# Altium integrated library TI Video Colour Decoder Circuit.IntLib: 24 symbols (part 3 of 3)
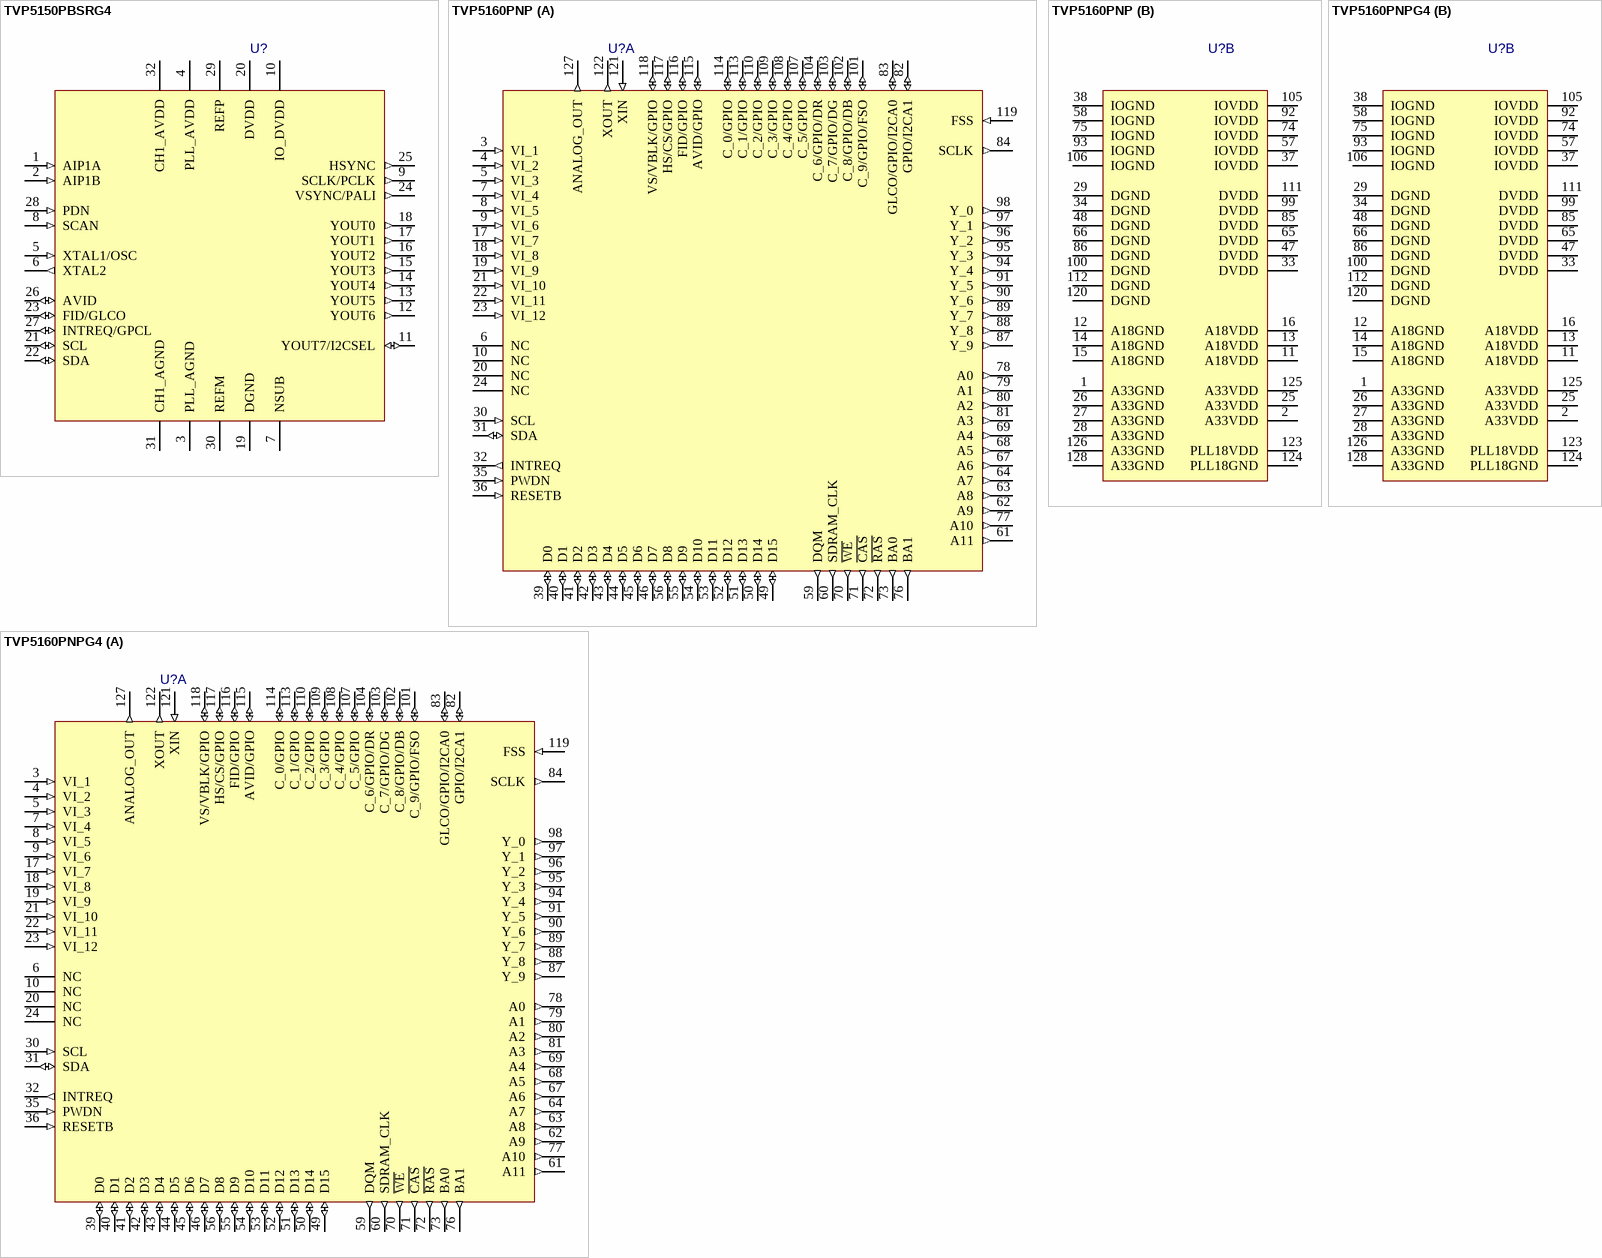
[diagram p5: symbols TVP5150PBSRG4 to TVP5160PNPG4]

## TVP5160PNPG4
designator U?
NTSC/PAL/SECAM/Component 2x10-Bit Digital Video Decoder with Macrovision Detection, 3D-YC/5-Line Com, 128-Pin HTQFP; Published: 6-Oct-2005; LatestRevisionDate: 13-Apr-2006; LatestRevisionNote: IPC-7351 Footprint Added.; DatasheetVersion: Feb-2005; PackageVersion: Sep-2004; PackageReference: PNP128; Publisher: Altium Limited; PackageDescription: 128-Pin Plastic Quad Flat Pack PowerPAD 0.4mm Pitch; ComponentLink1Description: Manufacturer Link; ComponentLink1URL: http://focus.ti.com/docs/prod/folders/print/tvp5160.html; ComponentLink2Description: Datasheet; ComponentLink2URL: http://focus.ti.com/lit/ds/symlink/tvp5160.pdf
footprint PNP128_N (Thin QFP, 128-Leads, Body 14x14mm, Pitch 0.4mm, IPC Medium Density)
footprint PNP128_L (Thin QFP, 128-Leads, Body 14x14mm, Pitch 0.4mm, IPC High Density)
footprint PNP128_M (Thin QFP, 128-Leads, Body 14x14mm, Pitch 0.4mm, IPC Low Density)
part A pins: 3 VI_1 (in) "Analog video input", 4 VI_2 (in) "Analog video input", 5 VI_3 (in) "Analog video input", 6 NC "No internal connection.", 7 VI_4 (in) "Analog video input", 8 VI_5 (in) "Analog video input", 9 VI_6 (in) "Analog video input", 10 NC "No internal connection.", 17 VI_7 (in) "Analog video input", 18 VI_8 (in) "Analog video input", 19 VI_9 (in) "Analog video input", 20 NC "No internal connection.", 21 VI_10 (in) "Analog video input", 22 VI_11 (in) "Analog video input", 23 VI_12 (in) "Analog video input", 24 NC "No internal connection.", 30 SCL (in) "I2C clock input", 31 SDA (io) "I2C data bus", 32 INTREQ (out) "Interrupt request output", 35 PWDN (in) "Power down input.", 36 RESETB (in) "Reset input, active low.", 39 D0 (io) "SDRAM data bus.", 40 D1 (io) "SDRAM data bus.", 41 D2 (io) "SDRAM data bus.", 42 D3 (io) "SDRAM data bus.", 43 D4 (io) "SDRAM data bus.", 44 D5 (io) "SDRAM data bus.", 45 D6 (io) "SDRAM data bus.", 46 D7 (io) "SDRAM data bus.", 49 D15 (io) "SDRAM data bus.", 50 D14 (io) "SDRAM data bus.", 51 D13 (io) "SDRAM data bus.", 52 D12 (io) "SDRAM data bus.", 53 D11 (io) "SDRAM data bus.", 54 D10 (io) "SDRAM data bus.", 55 D9 (io) "SDRAM data bus.", 56 D8 (io) "SDRAM data bus.", 59 DQM (out) "SDRAM input/output mask for data.", 60 SDRAM_CLK (out) "SDRAM 108-MHz clock.", 61 A11 (out) "SDRAM address bus.", 62 A9 (out) "SDRAM address bus.", 63 A8 (out) "SDRAM address bus.", 64 A7 (out) "SDRAM address bus.", 67 A6 (out) "SDRAM address bus.", 68 A5 (out) "SDRAM address bus.", 69 A4 (out) "SDRAM address bus.", 70 ~{WE} (out) "SDRAM write enable.", 71 ~{CAS} (out) "SDRAM CAS enable.", 72 ~{RAS} (out) "SDRAM RAS enable.", 73 BA0 (out) "SDRAM bank address.", 76 BA1 (out) "SDRAM bank address.", 77 A10 (out) "SDRAM address bus.", 78 A0 (out) "SDRAM address bus.", 79 A1 (out) "SDRAM address bus.", 80 A2 (out) "SDRAM address bus.", 81 A3 (out) "SDRAM address bus.", 82 GPIO/I2CA1 (io) "General-purpose I/O (GPIO). During reset, used to program I2C address (I2CA1).", 83 GLCO/GPIO/I2CA0 (io) "Genlock control output (GLCO). General-purpose I/O (GPIO). During reset, used to program I2C address (I2CA0).", 84 SCLK (out) "Line-locked data output clock", 87 Y_9 (out) "Digital video output of Y/YCbCr (MSB).", 88 Y_8 (out) "Digital video output of Y/YCbCr.", 89 Y_7 (out) "Digital video output of Y/YCbCr.", 90 Y_6 (out) "Digital video output of Y/YCbCr.", 91 Y_5 (out) "Digital video output of Y/YCbCr.", 94 Y_4 (out) "Digital video output of Y/YCbCr.", 95 Y_3 (out) "Digital video output of Y/YCbCr.", 96 Y_2 (out) "Digital video output of Y/YCbCr.", 97 Y_1 (out) "Digital video output of Y/YCbCr.", 98 Y_0 (out) "Digital video output of Y/YCbCr (LSB).", 101 C_9/GPIO/FSO (io) "Digital video output of CbCr (MSB). (FSO) Fast-switch overlay between digital RGB and any video input.", 102 C_8/GPIO/DB (io) "Digital video output of CbCr. (DB) Digital BLUE input from overlay device.", 103 C_7/GPIO/DG (io) "Digital video output of CbCr. (DG) Digital GREEN input from overlay device.", 104 C_6/GPIO/DR (io) "Digital video output of CbCr. (DR) Digital RED input from overlay device.", 107 C_5/GPIO (io) "Digital video output of CbCr.", 108 C_4/GPIO (io) "Digital video output of CbCr.", 109 C_3/GPIO (io) "Digital video output of CbCr.", 110 C_2/GPIO (io) "Digital video output of CbCr.", 113 C_1/GPIO (io) "Digital video output of CbCr.", 114 C_0/GPIO (io) "Digital video output of CbCr (LSB).", 115 AVID/GPIO (io) "Active video indicator. Programmable general purpose I/O.", 116 FID/GPIO (io) "Odd/even field indicator. Programmable general purpose I/O.", 117 HS/CS/GPIO (io) "Horizontal sync output or digital composite sync output. Programmable general purpose I/O", 118 VS/VBLK/GPIO (io) "Vertical sync output. (for modes with dedicated VS) or vertical blanking output. Programmable general purpose I/O.", 119 FSS (in) "SCART fast switch input", 121 XIN (in) "External clock reference input.", 122 XOUT (out) "External clock reference output.", 127 ANALOG_OUT (out) "Unbuffered analog video output"
part B pins: 1 A33GND (power) "Analog 3.3-V return.", 2 A33VDD (power) "Analog power. Connect to analog 3.3-V supply.", 11 A18VDD (power) "Analog power. Connect to analog 1.8-V supply", 12 A18GND (power) "Analog 1.8-V return.", 13 A18VDD (power) "Analog power. Connect to analog 1.8-V supply", 14 A18GND (power) "Analog 1.8-V return.", 15 A18GND (power) "Analog 1.8-V return.", 16 A18VDD (power) "Analog power. Connect to analog 1.8-V supply", 25 A33VDD (power) "Analog power. Connect to analog 3.3-V supply.", 26 A33GND (power) "Analog 3.3-V return.", 27 A33GND (power) "Analog 3.3-V return.", 28 A33GND (power) "Analog 3.3-V return.", 29 DGND (power) "Digital return. Connect to digital ground", 33 DVDD (power) "Digital core power. Connect to 1.8-V supply", 34 DGND (power) "Digital return. Connect to digital ground", 37 IOVDD (power) "Digital I/O power. Connect to digital 3.3-V supply", 38 IOGND (power) "Digital power return. Connect to digital ground", 47 DVDD (power) "Digital core power. Connect to 1.8-V supply", 48 DGND (power) "Digital return. Connect to digital ground", 57 IOVDD (power) "Digital I/O power. Connect to digital 3.3-V supply", 58 IOGND (power) "Digital power return. Connect to digital ground", 65 DVDD (power) "Digital core power. Connect to 1.8-V supply", 66 DGND (power) "Digital return. Connect to digital ground", 74 IOVDD (power) "Digital I/O power. Connect to digital 3.3-V supply", 75 IOGND (power) "Digital power return. Connect to digital ground", 85 DVDD (power) "Digital core power. Connect to 1.8-V supply", 86 DGND (power) "Digital return. Connect to digital ground", 92 IOVDD (power) "Digital I/O power. Connect to digital 3.3-V supply", 93 IOGND (power) "Digital power return. Connect to digital ground", 99 DVDD (power) "Digital core power. Connect to 1.8-V supply", 100 DGND (power) "Digital return. Connect to digital ground", 105 IOVDD (power) "Digital I/O power. Connect to digital 3.3-V supply", 106 IOGND (power) "Digital power return. Connect to digital ground", 111 DVDD (power) "Digital core power. Connect to 1.8-V supply", 112 DGND (power) "Digital return. Connect to digital ground", 120 DGND (power) "Digital return. Connect to digital ground", 123 PLL18VDD (power) "Analog power. Connect to analog 1.8-V supply", 124 PLL18GND (power) "Analog power return. Connect to analog ground", 125 A33VDD (power) "Analog power. Connect to analog 3.3-V supply.", 126 A33GND (power) "Analog 3.3-V return.", 128 A33GND (power) "Analog 3.3-V return."